# Altium footprint library 53261-1071.PcbLib: 1 footprints
Each footprint in its own frame and in the unit in brackets; x right, y up, seen from the top. Pads: shape width x height; smd on the part's side, far side on the other; paste and mask are expansions set on the pad; w line width, h text height; cw(c..) or ccw(c..) is an arc to the next point about the centre after c.
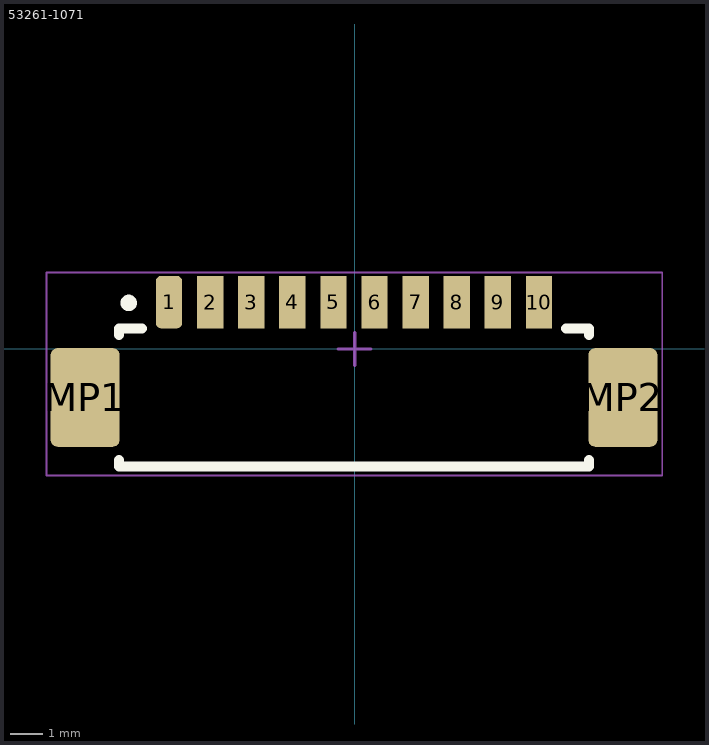
[diagram p0: the footprint, top view; thin cyan lines are the x and y axes]

## 53261-1071 [mm]
height 1.6
pads (12):
  rrect40% 0.8x1.6 smd: 1(-5.645,1.425)
  rect 0.8x1.6 smd: 2(-4.395,1.425) 3(-3.145,1.425) 4(-1.895,1.425) 5(-0.645,1.425) 6(0.605,1.425) 7(1.855,1.425) 8(3.105,1.425) 9(4.355,1.425) 10(5.605,1.425)
  rrect20% 2.1x3 smd: MP1(-8.195,-1.475) MP2(8.155,-1.475)
Top Overlay:
  circle w0.25: c-6.87,1.4 r0.125
  lines w0.3: -7.17,-3.375 -7.17,-3.575 7.13,-3.575 7.13,-3.375 ; -7.17,0.425 -7.17,0.625 -6.47,0.625 ; 6.43,0.625 7.13,0.625 7.13,0.425
Mechanical 15:
  lines w0.05: -9.37,-3.85 9.355,-3.85 9.355,2.325 -9.37,2.325 -9.37,-3.85
  lines w0.1: -0.5,0 0.5,0 ; 0,-0.5 0,0.5
3D body "532611071.stp": height 3.4, standoff 0, extent -8.825,-3.556 8.825,1.644